# Altium schematic symbol library ADP7118.SchLib: 15 symbols
Pins are listed as number, name and electrical type; pins without a type are passive.

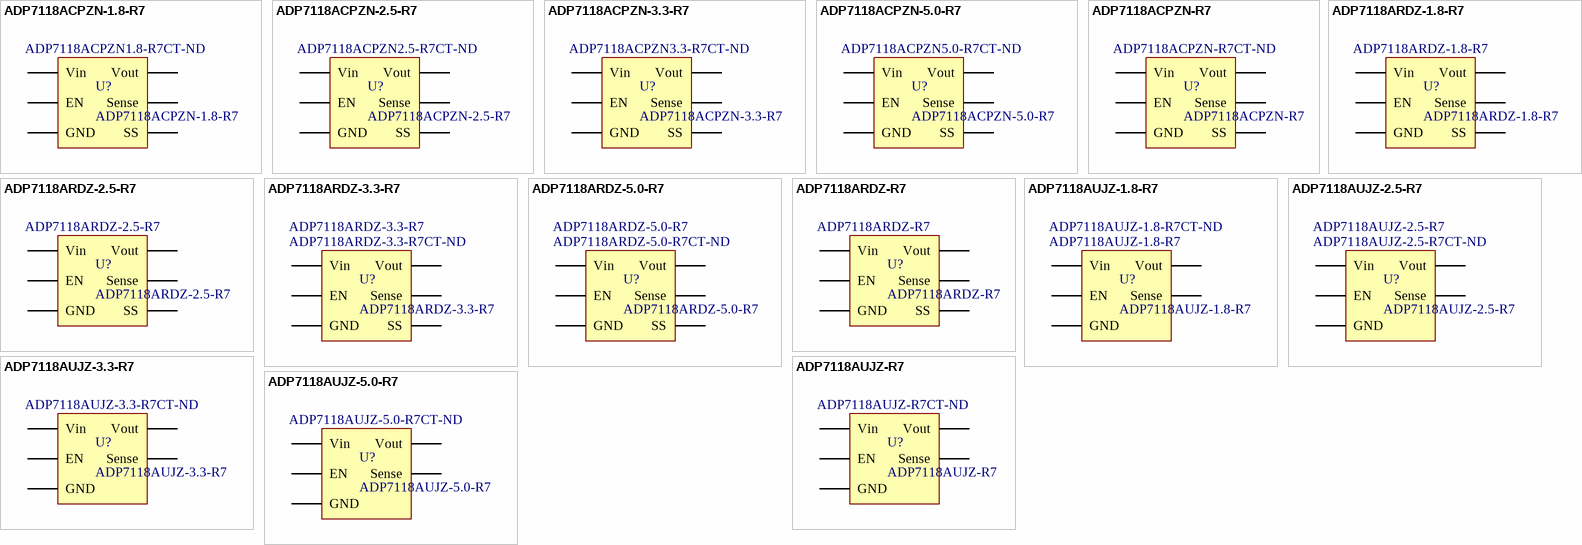
[diagram p0: symbols ADP7118ACPZN-1.8-R7 to ADP7118AUJZ-R7]

## ADP7118ACPZN-1.8-R7
designator U?  Supplier Part Number 1: ADP7118ACPZN1.8-R7CT-ND
Analog Devices / ADP7118ACPZN-1.8-R7 / 1.8 Voltage Output / −40°C to +125°C; Supplier 1: Digi-Key
footprint LFCSP_UD-6 (Pin-LeadFrame-Chip-Scale-Package, 6 Pin, 2.0 x 2.0 mm, Ultra thin, Dual lead)
pins: EN, GND, Sense, SS, Vin, Vout

## ADP7118ACPZN-2.5-R7
designator U?  Supplier Part Number 1: ADP7118ACPZN2.5-R7CT-ND
Analog Devices / ADP7118ACPZN-2.5-R7 / 2.5 Voltage Output / −40°C to +125°C; Supplier 1: Digi-Key
footprint LFCSP_UD-6 (Pin-LeadFrame-Chip-Scale-Package, 6 Pin, 2.0 x 2.0 mm, Ultra thin, Dual lead)
pins: EN, GND, Sense, SS, Vin, Vout

## ADP7118ACPZN-3.3-R7
designator U?  Supplier Part Number 1: ADP7118ACPZN3.3-R7CT-ND
Analog Devices / ADP7118ACPZN-3.3-R7 / 3.3 Voltage Output / −40°C to +125°C; Supplier 1: Digi-Key
footprint LFCSP_UD-6 (Pin-LeadFrame-Chip-Scale-Package, 6 Pin, 2.0 x 2.0 mm, Ultra thin, Dual lead)
pins: EN, GND, Sense, SS, Vin, Vout

## ADP7118ACPZN-5.0-R7
designator U?  Supplier Part Number 1: ADP7118ACPZN5.0-R7CT-ND
Analog Devices / ADP7118ACPZN-5.0-R7 / 5.0 Voltage Output / −40°C to +125°C; Supplier 1: Digi-Key
footprint LFCSP_UD-6 (Pin-LeadFrame-Chip-Scale-Package, 6 Pin, 2.0 x 2.0 mm, Ultra thin, Dual lead)
pins: EN, GND, Sense, SS, Vin, Vout

## ADP7118ACPZN-R7
designator U?  Supplier Part Number 1: ADP7118ACPZN-R7CT-ND
Analog Devices / ADP7118ACPZN-R7 / Adjastable Voltage Output / −40°C to +125°C; Supplier 1: Digi-Key
footprint LFCSP_UD-6 (Pin-LeadFrame-Chip-Scale-Package, 6 Pin, 2.0 x 2.0 mm, Ultra thin, Dual lead)
pins: EN, GND, Sense, SS, Vin, Vout

## ADP7118ARDZ-1.8-R7
designator U?
Analog Devices / ADP7118ARDZ-1.8-R7 / 1.8 Voltage Output / −40°C to +125°C; Supplier 1: Arrow Electronics Inc.; Supplier Part Number 1: ADP7118ARDZ-1.8-R7
footprint SOIC-8 (SOIC, 8-Leads, Body 4.90x3.90mm, Pitch 1.27mm, Thermal Pad 2.29x2.29mm, IPC Medium Density)
pins: EN, GND, Sense, SS, Vin, Vout

## ADP7118ARDZ-2.5-R7
designator U?
Analog Devices / ADP7118ARDZ-2.5-R7 / 2.5 Voltage Output / −40°C to +125°C; Supplier 1: Arrow; Supplier Part Number 1: ADP7118ARDZ-2.5-R7
footprint SOIC-8 (SOIC, 8-Leads, Body 4.90x3.90mm, Pitch 1.27mm, Thermal Pad 2.29x2.29mm, IPC Medium Density)
pins: EN, GND, Sense, SS, Vin, Vout

## ADP7118ARDZ-3.3-R7
designator U?  Supplier Part Number 1: ADP7118ARDZ-3.3-R7CT-ND
Analog Devices / ADP7118ARDZ-3.3-R7 / 3.3 Voltage Output / −40°C to +125°C; Supplier 1: Digi-Key; Supplier 2: Arrow Electronics Inc.; Supplier Part Number 2: ADP7118ARDZ-3.3-R7
footprint SOIC-8 (SOIC, 8-Leads, Body 4.90x3.90mm, Pitch 1.27mm, Thermal Pad 2.29x2.29mm, IPC Medium Density)
pins: EN, GND, Sense, SS, Vin, Vout

## ADP7118ARDZ-5.0-R7
designator U?  Supplier Part Number 1: ADP7118ARDZ-5.0-R7CT-ND
Analog Devices / ADP7118ARDZ-5.0-R7 / 5.0 Voltage Output / −40°C to +125°C; Supplier 1: Digi-Key; Supplier 2: Arrow Electronics Inc.; Supplier Part Number 2: ADP7118ARDZ-5.0-R7
footprint SOIC-8 (SOIC, 8-Leads, Body 4.90x3.90mm, Pitch 1.27mm, Thermal Pad 2.29x2.29mm, IPC Medium Density)
pins: EN, GND, Sense, SS, Vin, Vout

## ADP7118ARDZ-R7
designator U?
Analog Devices / ADP7118ARDZ-R7 / Adjastable Voltage Output / −40°C to +125°C; Supplier 1: Arrow Electronics Inc.; Supplier Part Number 1: ADP7118ARDZ-R7
footprint SOIC-8 (SOIC, 8-Leads, Body 4.90x3.90mm, Pitch 1.27mm, Thermal Pad 2.29x2.29mm, IPC Medium Density)
pins: EN, GND, Sense, SS, Vin, Vout

## ADP7118AUJZ-1.8-R7
designator U?  Supplier Part Number 2: ADP7118AUJZ-1.8-R7CT-ND
Analog Devices / ADP7118AUJZ-1.8-R7 / 1.8 Voltage Output / −40°C to +125°C; Supplier 1: Arrow Electronics Inc.; Supplier 2: Digi-Key; Supplier Part Number 1: ADP7118AUJZ-1.8-R7
footprint TSOT-5 (SOT23, 5-Leads, Body 2.90x2.80mm, Pitch 0.95mm, IPC Medium Density)
pins: EN, GND, Sense, Vin, Vout

## ADP7118AUJZ-2.5-R7
designator U?  Supplier Part Number 1: ADP7118AUJZ-2.5-R7CT-ND
Analog Devices / ADP7118AUJZ-2.5-R7 / 2.5 Voltage Output / −40°C to +125°C; Supplier 1: Digi-Key; Supplier 2: Arrow Electronics Inc.; Supplier Part Number 2: ADP7118AUJZ-2.5-R7
footprint TSOT-5 (SOT23, 5-Leads, Body 2.90x2.80mm, Pitch 0.95mm, IPC Medium Density)
pins: EN, GND, Sense, Vin, Vout

## ADP7118AUJZ-3.3-R7
designator U?  Supplier Part Number 1: ADP7118AUJZ-3.3-R7CT-ND
Analog Devices / ADP7118AUJZ-3.3-R7 / 3.3 Voltage Output / −40°C to +125°C; Supplier 1: Digi-Key
footprint TSOT-5 (SOT23, 5-Leads, Body 2.90x2.80mm, Pitch 0.95mm, IPC Medium Density)
pins: EN, GND, Sense, Vin, Vout

## ADP7118AUJZ-5.0-R7
designator U?  Supplier Part Number 1: ADP7118AUJZ-5.0-R7CT-ND
Analog Devices / ADP7118AUJZ-5.0-R7 / 5.0 Voltage Output / −40°C to +125°C; Supplier 1: Digi-Key
footprint TSOT-5 (SOT23, 5-Leads, Body 2.90x2.80mm, Pitch 0.95mm, IPC Medium Density)
pins: EN, GND, Sense, Vin, Vout

## ADP7118AUJZ-R7
designator U?  Supplier Part Number 1: ADP7118AUJZ-R7CT-ND
Analog Devices / ADP7118AUJZ-R7 / Adjastable Voltage Output / −40°C to +125°C; Supplier 1: Digi-Key
footprint TSOT-5 (SOT23, 5-Leads, Body 2.90x2.80mm, Pitch 0.95mm, IPC Medium Density)
pins: EN, GND, Sense, Vin, Vout